# EAGLE library part POLOLU-DRV8825_DRIVER (library IoWLabs-modules)
Layout of connector compatible with pololu stepper motor driver
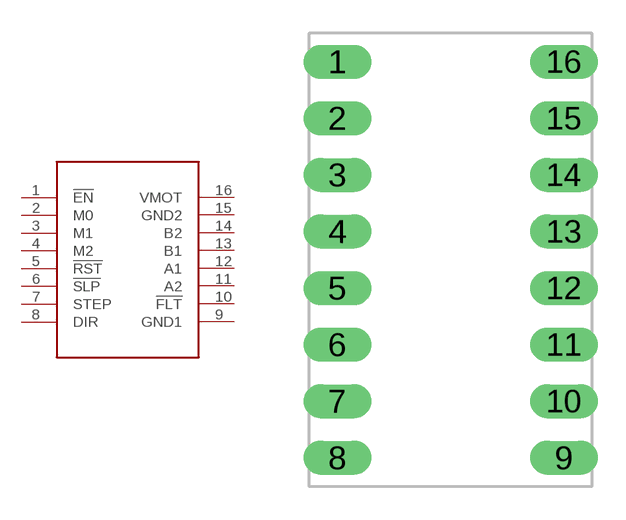
[diagram p1: symbol with the pads of POLOLU-DRV8825_DRIVER; footprint POLOLU-DRV8825_DRIVER]

Designator prefix DRV

## POLOLU-DRV8825_DRIVER  [POLOLU-DRV8825_DRIVER]
1  !EN
2  M0
3  M1
4  M2
5  !RST
6  !SLP
7  STEP
8  DIR
9  GND1
10  !FLT
11  A2
12  A1
13  B1
14  B2
15  GND2
16  VMOT

## Footprint POLOLU-DRV8825_DRIVER (pad centres in mm)
drill 1.016 long: 1 -5.08,8.89; 2 -5.08,6.35; 3 -5.08,3.81; 4 -5.08,1.27; 5 -5.08,-1.27; 6 -5.08,-3.81; 7 -5.08,-6.35; 8 -5.08,-8.89; 9 5.08,-8.89; 10 5.08,-6.35; 11 5.08,-3.81; 12 5.08,-1.27; 13 5.08,1.27; 14 5.08,3.81; 15 5.08,6.35; 16 5.08,8.89